# Altium footprint library switch.PcbLib: 20 footprints (part 2 of 2)
Each footprint in its own frame and in the unit in brackets; x right, y up, seen from the top. Pads: shape width x height; smd on the part's side, far side on the other; paste and mask are expansions set on the pad; w line width, h text height; cw(c..) or ccw(c..) is an arc to the next point about the centre after c.
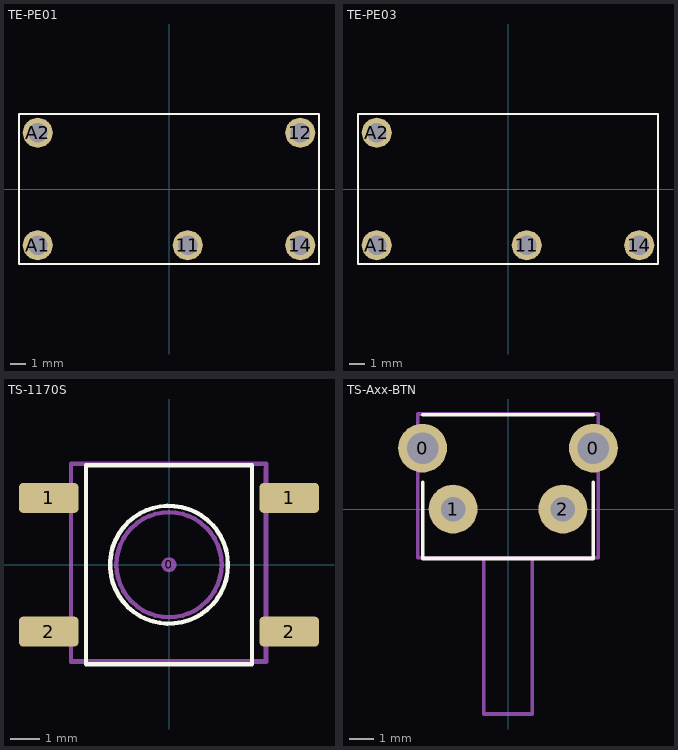
[diagram p1: the footprints below, top view; thin cyan lines are the x and y axes]

## TE-PE01 [mm]
height 10
pads (5):
  round 2 hole 1.3 unplated: 11(1.25,-3.75) 12(8.75,3.75) 14(8.75,-3.75) A1(-8.75,-3.75) A2(-8.75,3.75)
Top Overlay:
  lines w0.15: -10,-5 10,-5 10,5 -10,5 -10,-5
  text "." at -8.89,-5.715 h0.1
3D body: height 10, standoff 0.5, extent -10,-5 10,5

## TE-PE03 [mm]
height 10
pads (4):
  round 2 hole 1.3 unplated: 11(1.25,-3.75) 14(8.75,-3.75) A1(-8.75,-3.75) A2(-8.75,3.75)
Top Overlay:
  lines w0.15: -10,-5 -10,5 10,5 10,-5 -10,-5
  text "." at -8.89,-5.715 h0.1
3D body: height 10, standoff 0.5, extent -10,-5 10,5

## TS-1170S [mm] "6.5x6.5mm SMD tact switch 7.0mm stem"
height 7
pads (5):
  round 0.508 on Mech15: 0(0,0)
  rrect25% 2x1 smd: 1(-4.05,2.25) 1(4.05,2.25) 2(-4.05,-2.25) 2(4.05,-2.25)
Top Overlay:
  circle w0.15: c0,0 r1.984
  lines w0.15: -2.794,-3.35 2.794,-3.35 2.794,3.35 -2.794,3.35 -2.794,-3.35
Mechanical 29:
  circle w0.15: c0,0 r1.77
  lines w0.15: -3.3,-2.625 -4.35,-2.625 -4.35,-1.9 -3.3,-1.9 ; -3.3,1.875 -4.35,1.875 -4.35,2.6 -3.3,2.6 ; -3.25,-3.25 3.25,-3.25 3.25,3.25 ; 3.275,-2.625 4.325,-2.625 4.325,-1.9 3.275,-1.9 ; 3.275,1.9 4.325,1.9 4.325,2.625 3.275,2.625 ; -3.3,-3.275 3.275,-3.275 3.275,3.4 -3.3,3.4 -3.3,-3.275
3D body "TS-1170S-WP.stp": height 7, standoff 0, extent -4,-3.25 4,3.25

## TS-Axx-BTN [mm]
height 7
pads (4):
  round 2 hole 1.3: 0(-3.5,2.5) 0(3.5,2.5)
  round 2 hole 1: 1(-2.25,0) 2(2.25,0)
Top Overlay:
  lines w0.15: -3.5,1.1 -3.5,-2.025 0,-2.025 3.5,-2.025 3.5,1.1 ; -3.5,3.875 3.5,3.875
Mechanical 29:
  lines w0.15: -1,-2 -1,-8.4 0,-8.4 1,-8.4 1,-2 ; -3.7,-2 -3.7,3.9 3.7,3.9 3.7,-2 -3.7,-2
3D body "User Library-TACT DIP 6X6 CORNER (SWITRONIC 0795).step": height 7.3, standoff -3.6, extent -3.945,-8.425 3.995,3.975